# Altium schematic symbol library USLI_Footprints.SchLib: 148 symbols
Pins are listed as number, name and electrical type; pins without a type are passive.

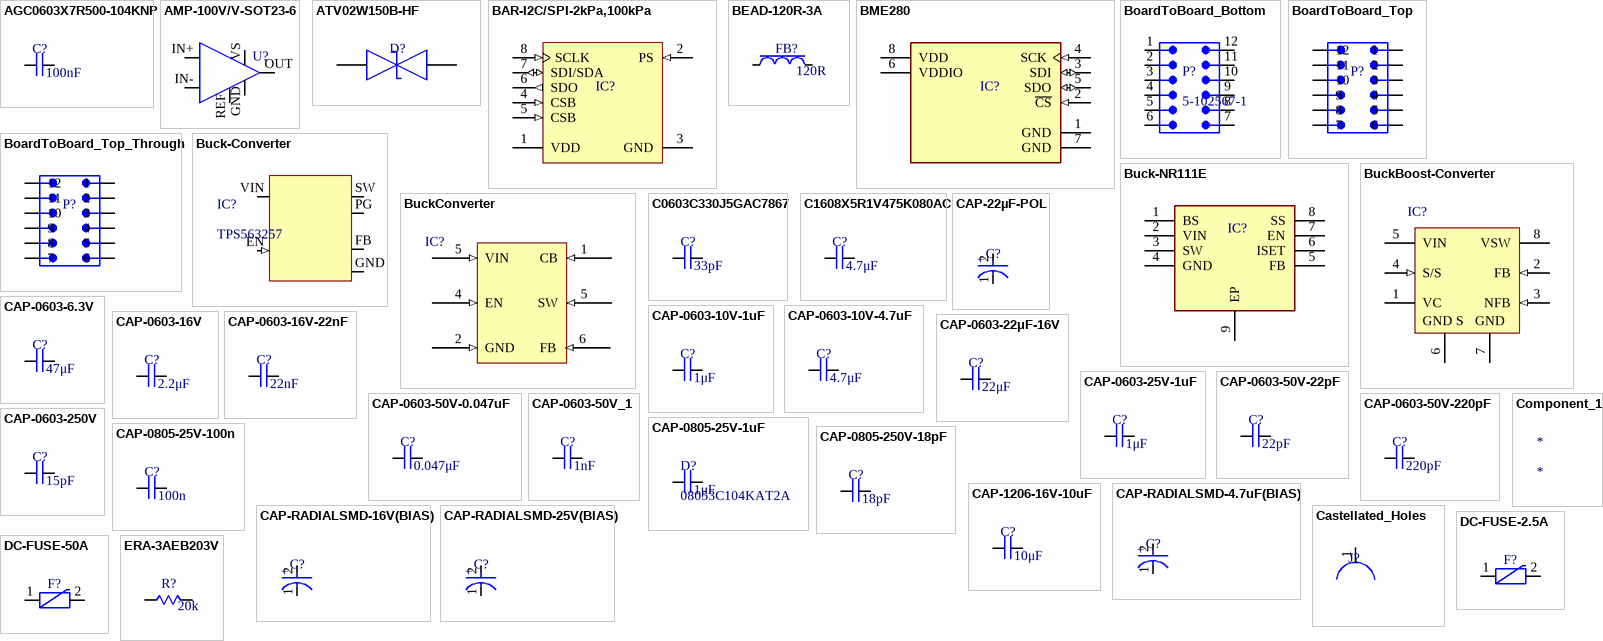
[diagram p0: symbols AGC0603X7R500-104KNP to ERA-3AEB203V]

## AGC0603X7R500-104KNP
designator C?  (value not drawn)
100nF ±10% 50V Ceramic Capacitor X7R 0603 (1608 Metric); Manufacturer: Venkel; Part number: AGC0603X7R500-104KNP
footprint 0603-CAP
pins: 1, 2
text: 100nF

## AMP-100V/V-SOT23-6
designator U?, comment INA181A3IDBVR  (value not drawn)
Current Sense Amplifier 1 Circuit Rail-to-Rail SOT-23-6; Manufacturer: Texas Instruments; Part number: INA181A3IDBVR
footprint SOT95P280X145-6N (SOT23, 6-Leads, Body 2.90x2.80mm, Pitch 0.95mm, IPC Medium Density); pin to pad GND>2 IN+>3 IN->6 OUT>1 REF>5 VS>4
pins: GND, IN+, IN-, OUT, REF, VS

## ATV02W150B-HF
designator D?  (value not drawn)
TVS DIODE 15VWM 24.4VC SOD123F; Manufacturer: Comchip Technology; Part number: ATV02W150B-HF
footprint FP-SOD-123-CA-MFG
pins: 1, 2

## BAR-I2C/SPI-2kPa,100kPa
designator IC?, comment MS560702BA03-50  (value not drawn)
Pressure Sensor 0.15PSI ~ 17.4PSI (1kPa ~ 120kPa) Absolute 24 b 8-SMD; Manufacturer: TE Connectivity Measurement Specialties; Part number: MS560702BA03-50
footprint TECO-MS560702BA03-50_V (SMD, 8-Leads, Body 3x5mm, Pitch 1.25mm)
pins: 1 VDD (power) "Positive supply voltage", 2 PS (in) "Protocol select. PS high (VDD) ---> I2C. PS low (GND) ---> SPI", 3 GND (power) "Ground", 4 CSB (in) "Chip select (active low), internal connection", 5 CSB (in) "Chip select (active low), internal connection", 6 SDO (out) "Serial data output", 7 SDI/SDA (io) "Serial data input / I2C data IO", 8 SCLK (in) "Serial data clock"

## BEAD-120R-3A
designator FB?, comment BLM18KG121TN1D  (value not drawn)
120 Ohms @ 100 MHz 1 Power Line Ferrite Bead 0603 (1608 Metric) 3A 30mOhm; Manufacturer: Murata Electronics; Part number: BLM18KG121TN1D
footprint FerriteBead-BLM18KG121TN1D
pins: 1 (power), 2 (power)
text: 120R

## BME280
designator IC?  (value not drawn)
Pressure Sensor 4.35PSI ~ 15.95PSI (30kPa ~ 110kPa) Absolute 16b 8-SMD
footprint BME280
pins: 1 GND (power), 2 ~{CS} (in), 3 SDI (io), 4 SCK (in), 5 SDO (io), 6 VDDIO (power), 7 GND (power), 8 VDD (power)

## BoardToBoard_Bottom
designator P?, comment 5-102567-1
Connector Header Through Hole 12 position 0.100" (2.54mm)
footprint 12-pin-2-row-male
pins: 1, 2, 3, 4, 5, 6, 7, 8, 9, 10, 11, 12

## BoardToBoard_Top
designator P?, comment NPPC062KFMS-RC  (value not drawn)
12 Position Receptacle Connector 0.100" (2.54mm) Through Hole Gold
footprint NPPC062KFMS-RC
pins: 1 12, 2 11, 3 10, 4 9, 5 8, 6 7, 7 6, 8 5, 9 4, 10 3, 11 2, 12 1

## BoardToBoard_Top_Through
designator P?, comment 215307-6  (value not drawn)
12 Position Receptacle Connector 0.100" (2.54mm) Through Hole Gold
footprint 12-PIN-2-ROW-FEMALE
pins: 1 12, 2 11, 3 10, 4 9, 5 8, 6 7, 7 6, 8 5, 9 4, 10 3, 11 2, 12 1

## Buck-Converter
designator IC?, comment TPS563257
TPS56325x 3-V to 17-V Input, 3-A, Synchronous Buck Converters in SOT-563 Package; Manufacturer: Texas Instruments; Part number: TPS563257
footprint SOT50P160X60-6N
pins: EN (in), FB, GND (power), PG, SW (power), VIN (power)

## Buck-NR111E
designator IC?, comment NR111E  (value not drawn)
Buck Switching Regulator IC Positive Adjustable 0.8V 1 Output 4A 8-SOIC (0.154", 3.90mm Width) Exposed Pad
footprint SOIC-8-Thermally-Enhanced (Standard SOIC-8 symbol with thermal pad)
pins: 1 BS, 2 VIN, 3 SW, 4 GND, 5 FB, 6 ISET, 7 EN, 8 SS, 9 EP

## BuckBoost-Converter
designator IC?, comment LT1372CS8#TRPBF  (value not drawn)
Buck, Boost, Cuk, Flyback, Forward Converter, SEPIC Switching Regulator IC Positive or Negative Adjustable 1.245V 1 Output 1.5A (Switch) 8-SOIC (0.154", 3.90mm Width); Manufacturer: Analog Devices Inc.; Part number: LT1372CS8#TRPBF
footprint LT-S8-8_L (SOIC, 8-Leads, Body 5x4mm, Pitch 1.27mm, IPC High Density)
pins: 1 VC "The compensation pin is used for frequency compensation, current limiting and soft start. It is the output of the error amplifier and the input of the current comparator. Loop frequency compensation can be performed with an (See Datasheet)", 2 FB (in) "The feedback pin is used for positive output voltage sensing and oscillator frequency shifting. It is the inverting input to the error amplifier. The noninverting input of this amplifier is internally tied to a 1.245V (See Datasheet)", 3 NFB (in), 4 S/S (in) "Shutdown and Synchronization Pin. The S/S pin is logic level compatible. Shutdown is active low and the shutdown threshold is typically 1.3V. For normal operation, pull the S/S pin high, tie it to VIN or leave it floating. (See Datasheet)", 5 VIN (power) "Bypass input supply pin with 10uF or more. The part goes into undervoltage lockout when VIN drops below 2.5V. Undervoltage lockout stops switching and pulls the VC pin low.", 6 GND S (power) "The ground sense pin is a ¡°clean¡± ground. The internal reference, error amplifier and negative feedback amplifier are referred to the ground sense pin. Connect it to ground. Keep the ground path connection to the out(See Datasheet)", 7 GND (power) "The ground pin is the emitter connection of the power switch and has large currents flowing through it. It should be connected directly to a good quality ground plane.", 8 VSW (power) "The switch pin is the collector of the power switch and has large currents flowing through it. Keep the traces to the switching components as short as possible to minimize radiation and voltage spikes."

## BuckConverter
designator IC?, comment LMR51610XFDBVR  (value not drawn)
Buck Switching Regulator IC Positive Adjustable 0.8V 1 Output 1A SOT-23-6; Manufacturer: Texas Instruments; Part number: LMR51610XFDBVR
footprint SOT23-6 (SOT23, 6-Leads, Body 2.90x2.80mm, Pitch 0.95mm, IPC Medium Density)
pins: 1 CB (in), 2 GND (in), 4 EN (in), 5 VIN (in), 5 SW (in), 6 FB (in)

## C0603C330J5GAC7867
designator C?  (value not drawn)
33 pF ±5% 50V Ceramic Capacitor C0G, NP0 0603 (1608 Metric); Parameter 2: KEMET; Manufacturer: C0603C330J5GAC7867
footprint 0603-CAP
pins: 1, 2
text: 33pF

## C1608X5R1V475K080AC
designator C?  (value not drawn)
4.7 µF ±10% 35V Ceramic Capacitor X5R 0603 (1608 Metric); Manufacturer: TDK Corporation; Part number: C1608X5R1V475K080AC
footprint 0603-CAP
pins: 1, 2
text: 4.7μF

## CAP-22µF-POL
designator C?, comment EEE-FK1H220P  (value not drawn)
22 µF 50 V Aluminum Electrolytic Capacitors Radial, Can - SMD 2000 Hrs @ 105°C; Manufacturer: Panasonic Electronic Components; Part number: EEE-FK1H220P
footprint FP-FKD-MFG - duplicate
pins: 1 C, 2 A
text: +

## CAP-0603-6.3V
designator C?, comment GRM188R60J476ME15D  (value not drawn)
47 µF ±20% 6.3V Ceramic Capacitor X5R 0603 (1608 Metric); Manufacturer: Murata Electronics; Part number: GRM188R60J476ME15D
footprint 0603-CAP
pins: 1, 2
text: 47μF

## CAP-0603-10V-1uF
designator C?, comment C0603C105Z8VAC7867  (value not drawn)
1 µF -20%, +80% 10V Ceramic Capacitor Y5V (F) 0603 (1608 Metric)
footprint 0603-CAP
pins: 1, 2
text: 1μF

## CAP-0603-10V-4.7uF
designator C?, comment CL21A475KAQNNNE  (value not drawn)
4.7 µF ±10% 25V Ceramic Capacitor X5R 0805 (2012 Metric)
footprint CAP-0805
pins: 1, 2
text: 4.7μF

## CAP-0603-16V
designator C?, comment CL10A225KO8NNNC  (value not drawn)
2.2 µF ±10% 16V Ceramic Capacitor X5R 0603 (1608 Metric); Manufacturer: Samsung Electro-Mechanics; Part number: CL10A225KO8NNNC
footprint 0603-CAP
pins: 1, 2
text: 2.2μF

## CAP-0603-16V-22nF
designator C?, comment GRM033R61C223ME84D  (value not drawn)
0.022 µF ±20% 16V Ceramic Capacitor X5R 0201 (0603 Metric); Manufacturer: Murata Electronics; Part number: GRM033R61C223ME84D
footprint 0603-CAP
pins: 1, 2
text: 22nF

## CAP-0603-22μF-16V
designator C?, comment CL10A226MO7JZNC  (value not drawn)
22 µF ±20% 16V Ceramic Capacitor X5R 0603 (1608 Metric); Manufacturer: Samsung Electro-Mechanics; Part number: CL10A226MO7JZNC
footprint 0603-CAP
pins: 1, 2
text: 22μF

## CAP-0603-25V-1uF
designator C?, comment 06033D105MAT2A  (value not drawn)
1 µF ±20% 25V Ceramic Capacitor X5R 0603 (1608 Metric); Manufacturer: KYOCERA AVX; Part number: 06033D105MAT2A
footprint 0603-CAP
pins: 1, 2
text: 1μF

## CAP-0603-50V-0.047uF
designator C?, comment GCM188R71H473KA55D  (value not drawn)
0.047 µF ±10% 50V Ceramic Capacitor X7R 0603 (1608 Metric); Manufacturer: Murata Electronics; Part number: GCM188R71H473KA55D
footprint 0603-CAP
pins: 1, 2
text: 0.047μF

## CAP-0603-50V-22pF
designator C?, comment C0603C220J5GAC7867  (value not drawn)
22 pF ±5% 50V Ceramic Capacitor C0G, NP0 0603 (1608 Metric); Manufacturer: KEMET; Part number: C0603C220J5GAC7867
footprint 0603-CAP
pins: 1, 2
text: 22pF

## CAP-0603-50V-220pF
designator C?, comment KGM15AR71H221MT  (value not drawn)
220 pF ±20% 50V Ceramic Capacitor X7R 0603 (1608 Metric); Manufacturer: KYOCERA AVX; Part number: KGM15AR71H221MT
footprint 0603-CAP
pins: 1, 2
text: 220pF

## CAP-0603-50V_1
designator C?, comment C0603C102K5RAC7867  (value not drawn)
1000 pF ±10% 50V Ceramic Capacitor X7R 0603 (1608 Metric); Manufacturer: KEMET; Part number: C0603C102K5RAC7867
footprint 0603-CAP
pins: 1, 2
text: 1nF

## CAP-0603-250V
designator C?, comment CHV0603N250150GCT  (value not drawn)
15 pF ±2% 250V Ceramic Capacitor C0G, NP0 0603 (1608 Metric); Manufacturer: Cal-Chip Electronics, Inc.; Part number: CHV0603N250150GCT
footprint 0603-CAP
pins: 1, 2
text: 15pF

## CAP-0805-25V-1uF
designator D?, comment 08053C104KAT2A
Ceramic Capacitor, Multilayer, Ceramic, 25V, 10% +Tol, 10% -Tol, X7R, 15% TC, 0.1uF, Surface Mount, 0805
pins: 1, 2
text: 1μF

## CAP-0805-25V-100n
designator C?, comment KGM21NR71E104KT  (value not drawn)
0.1 µF ±10% 25V Ceramic Capacitor X7R 0805 (2012 Metric)
footprint CAP-0805
pins: 1, 2
text: 100n

## CAP-0805-250V-18pF
designator C?, comment 600F180FT250XT  (value not drawn)
18 pF ±1% 250V Ceramic Capacitor C0G, NP0 0805 (2012 Metric)
footprint CAP-0805
pins: 1, 2
text: 18pF

## CAP-1206-16V-10uF
designator C?, comment GRM31CR71C106KAC7L  (value not drawn)
10 µF ±10% 16V Ceramic Capacitor X7R 1206 (3216 Metric)
footprint 1206-RES
pins: 1, 2
text: 10μF

## CAP-RADIALSMD-4.7uF(BIAS)
designator C?, comment 865080640004  (value not drawn)
4.7 µF 50 V Aluminum Electrolytic Capacitors Radial, Can - SMD 2000 Hrs @ 105°C
footprint 865080640004
pins: 1 C, 2 A
text: +

## CAP-RADIALSMD-16V(BIAS)
designator C?, comment 16SVP3R3M  (value not drawn)
CAP ALUM POLY 3.3UF 20% 16V SMD; Manufacturer: Panasonic Electronic Components; Part number: 16SVP3R3M
footprint FP-OS-CON-SMT-A5-MFG
pins: 1 C, 2 A
text: +

## CAP-RADIALSMD-25V(BIAS)
designator C?, comment EEE-FK1E470P  (value not drawn)
47 µF 25 V Aluminum Electrolytic Capacitors Radial, Can - SMD 2000 Hrs @ 105°C; Manufacturer: Panasonic Electronic Components; Part number: EEE-FK1E470P
footprint FP-FKD-MFG
pins: 1 C, 2 A
text: +

## Castellated_Holes
designator J?, comment CastellatedHoles  (value not drawn)
Use for high current and external connections
footprint Castellated_Holes
pins: 1

## Component_1
designator *

## DC-FUSE-2.5A
designator F?, comment MF-USHT050KX-2  (value not drawn)
Polymeric PTC Resettable Fuse 30V 500 mA Ih Surface Mount 1210 (3225 Metric), Concave
footprint 1210-IND
pins: 1 2, 2

## DC-FUSE-50A
designator F?, comment 0685P9500-01  (value not drawn)
50 A AC 32 V DC Fuse Board Mount (Cartridge Style Excluded) Surface Mount 1206 (3216 Metric)
footprint 0685P9500-01
pins: 1 2, 2

## ERA-3AEB203V
designator R?  (value not drawn)
20 kOhms ±0.1% 0.1W, 1/10W Chip Resistor 0603 (1608 Metric) Automotive AEC-Q200 Thin Film; Manufacturer: Panasonic Electronic Components; Part number: ERA-3AEB203V
footprint 0603-RES
pins: 1, 2
text: 20k

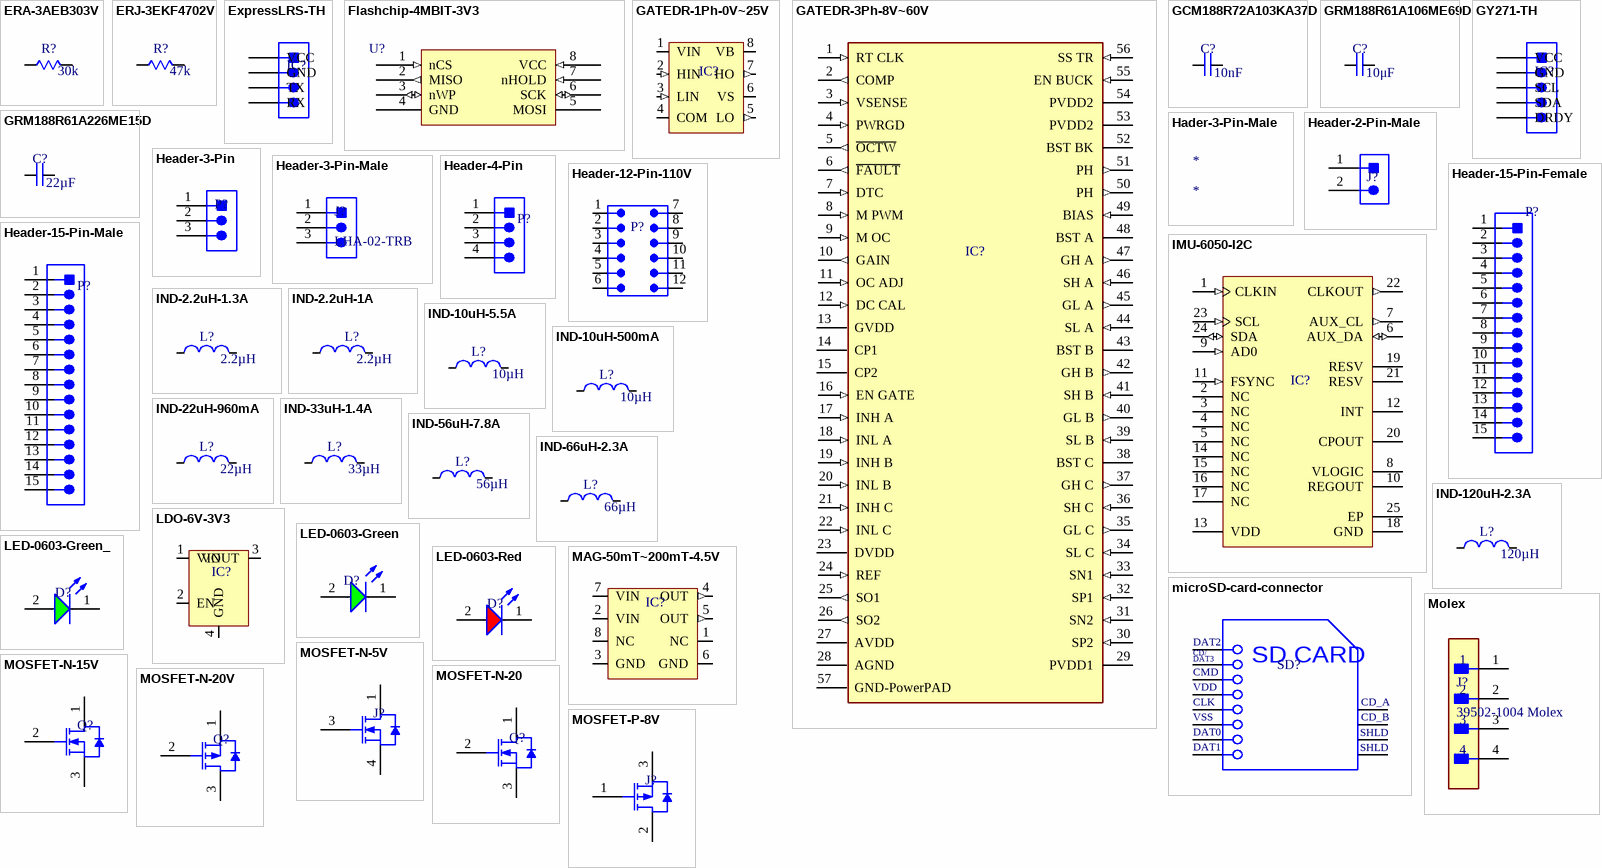
[diagram p1: symbols ERA-3AEB303V to MOSFET-P-8V]

## ERA-3AEB303V
designator R?  (value not drawn)
30 kOhms ±0.1% 0.1W, 1/10W Chip Resistor 0603 (1608 Metric) Automotive AEC-Q200 Thin Film; Manufacturer: Panasonic Electronic Components; Part number: ERA-3AEB303V
footprint 0603-RES
pins: 1, 2
text: 30k

## ERJ-3EKF4702V
designator R?  (value not drawn)
47 kOhms ±1% 0.1W, 1/10W Chip Resistor 0603 (1608 Metric) Automotive AEC-Q200 Thick Film; Parameter 1: Panasonic Electronic Components; Parameter 2: ERJ-3EKF4702V
pins: 1, 2
text: 47k

## ExpressLRS-TH
designator IC?  (value not drawn)
ExpressLRS Breakout Board
footprint ExpressLRS-TH
pins: 1 VCC, 2 GND, 3 TX, 4 RX

## Flashchip-4MBIT-3V3
designator U?, comment AT25SF041B-SSHB-T  (value not drawn)
FLASH - NOR Memory IC 4Mbit SPI - Quad I/O 108 MHz 8-SOIC; Manufacturer: Renesas Electronics Corporation; Part number: AT25SF041B-SSHB-T
footprint SOIC Flash (SOIC, 8-Leads, Body 4.93x3.90mm, Pitch 1.27mm, IPC Medium Density)
pins: 1 nCS (in), 2 MISO (out), 3 nWP (io), 4 GND (power), 5 MOSI (power), 6 SCK (io), 7 nHOLD (in), 8 VCC (in)

## GATEDR-1Ph-0V~25V
designator IC?, comment IR2103STRPBF  (value not drawn)
Half-Bridge Gate Driver IC Inverting, Non-Inverting 8-SOIC; Manufacturer: Infineon Technologies; Part number: IR2103STRPBF
footprint SOIC127P600X120-8N (SOIC, 8-Leads, Body 5.00x3.90mm, Pitch 1.27mm, IPC Medium Density)
pins: 1 VIN (power), 2 HIN (in), 3 LIN (in), 4 COM (power), 5 LO (out), 6 VS, 7 HO (out), 8 VB

## GATEDR-3Ph-8V~60V
designator IC?, comment DRV8302DCAR  (value not drawn)
Motor Driver Power MOSFET Parallel 56-HTSSOP; Manufacturer: Texas Instruments; Part number: DRV8302DCAR
footprint FP-DCA0056A-IPC_A
pins: 1 RT CLK (in), 2 COMP (out), 3 VSENSE (in), 4 PWRGD (in), 5 ~{OCTW} (out), 6 ~{FAULT} (out), 7 DTC (in), 8 M PWM (in), 9 M OC (in), 10 GAIN (out), 11 OC ADJ (in), 12 DC CAL (in), 13 GVDD (power), 14 CP1 (power), 15 CP2 (power), 16 EN GATE (in), 17 INH A (in), 18 INL A (in), 19 INH B (in), 20 INL B (in), 21 INH C (in), 22 INL C (in), 23 DVDD (power), 24 REF (in), 25 SO1 (out), 26 SO2 (out), 27 AVDD (power), 28 AGND (power), 29 PVDD1 (power), 30 SP2 (in), 31 SN2 (in), 32 SP1 (in), 33 SN1 (in), 34 SL C (in), 35 GL C (out), 36 SH C (in), 37 GH C (out), 38 BST C (power), 39 SL B (in), 40 GL B (out), 41 SH B (in), 42 GH B (out), 43 BST B (power), 44 SL A (in), 45 GL A (out), 46 SH A (in), 47 GH A (out), 48 BST A (power), 49 BIAS (in), 50 PH (out), 51 PH (out), 52 BST BK (power), 53 PVDD2 (power), 54 PVDD2 (power), 55 EN BUCK (in), 56 SS TR (in), 57 GND-PowerPAD (power)

## GCM188R72A103KA37D
designator C?  (value not drawn)
10nF ±10% 100V Ceramic Capacitor X7R 0603 (1608 Metric); Manufacturer: Murata Electronics; Part number: GCM188R72A103KA37D
footprint 0603-CAP
pins: 1, 2
text: 10nF

## GRM188R61A106ME69D
designator C?  (value not drawn)
10 µF ±20% 10V Ceramic Capacitor X5R 0603 (1608 Metric); Manufacturer: GRM188R61A106ME69D; Part number: 10 µF ±20% 10V Ceramic Capacitor X5R 0603 (1608 Metric)
footprint 0603-CAP
pins: 1, 2
text: 10μF

## GRM188R61A226ME15D
designator C?  (value not drawn)
22 µF ±20% 10V Ceramic Capacitor X5R 0603 (1608 Metric); Manufacturer: MuRata Electronics; Part number: GRM188R61A226ME15D
footprint 0608-CAP
pins: 1, 2
text: 22µF

## GY271-TH
designator IC?  (value not drawn)
GY271 Breakout Board
footprint GY271-TH (HDR100IMP08F-G-V-ST)
pins: 1 VCC, 2 GND, 3 SCL, 4 SDA, 5 DRDY

## Hader-3-Pin-Male
designator *

## Header-2-Pin-Male
designator J?, comment 61300211121  (value not drawn)
Connector Header Through Hole 2 position 0.100" (2.54mm); Manufacturer: Würth Elektronik; Part number: 61300211121
footprint HEADER-2-Pin
pins: 1, 2

## Header-3-Pin
designator P?, comment 61300311121  (value not drawn)
Connector Header Through Hole 3 position 0.100" (2.54mm); Manufacturer: Würth Elektronik; Part number: 61300311121
footprint Header-3pin
pins: 1, 2, 3

## Header-3-Pin-Male
designator J?, comment LHA-02-TRB
Connector Header Through Hole, Right Angle 2 position 0.100" (2.54mm)
footprint PWM_ESC
pins: 1, 2, 3

## Header-4-Pin
designator P?, comment 22-27-2041  (value not drawn)
Male Header, Pitch 2.54 mm, 1 x 4 Position, Height 11.7 mm, Tail Length 3.56 mm, RoHS, Bulk; Manufacturer: MOLEX; Part number: 22-27-2041
footprint MOLX-22-27-2041_V (CONN, 4-Leads, Body 10.16x5.8mm, Pitch 2.54mm)
pins: 1, 2, 3, 4

## Header-12-Pin-110V
designator P?, comment 10129383-912001ALF  (value not drawn)
Connector Header Surface Mount 12 position 0.100" (2.54mm); Manufacturer: Amphenol ICC (FCI); Part number: 10129383-912001ALF
footprint PCBComponent_1 - duplicate
pins: 1, 2, 3, 4, 5, 6, 7, 8, 9, 10, 11, 12

## Header-15-Pin-Female
designator P?, comment PPTC151LFBN-RC  (value not drawn)
15 Position Header Connector 0.100" (2.54mm) Through Hole Tin; Manufacturer: Sullins Connector Solutions; Part number: PPTC151LFBN-RC
footprint Female 15pin-Header - duplicate (Footprint not found)
pins: 1, 2, 3, 4, 5, 6, 7, 8, 9, 10, 11, 12, 13, 14, 15

## Header-15-Pin-Male
designator P?, comment 0022232151  (value not drawn)
Connector Header Through Hole 15 position 0.100" (2.54mm); Manufacturer: Molex; Part number: 0022232151
footprint Male 15pin-Header
pins: 1, 2, 3, 4, 5, 6, 7, 8, 9, 10, 11, 12, 13, 14, 15

## IMU-6050-I2C
designator IC?, comment MPU-6050  (value not drawn)
Accelerometer, Gyroscope, 6 Axis Sensor I2C Output; Manufacturer: TDK InvenSense; Part number: MPU-6050
footprint IS-QFN-24_V (QFN, 24-Leads, Body 4x4mm, Pitch 0.5mm, Thermal Pad 2.7x2.6mm)
pins: 1 CLKIN (in) "Optional external reference clock input. Connect to GND if unused.", 2 NC "Not internally connected. May be used for PCB trace routing", 3 NC "Not internally connected. May be used for PCB trace routing", 4 NC "Not internally connected. May be used for PCB trace routing", 5 NC "Not internally connected. May be used for PCB trace routing", 6 AUX_DA (io) "I2C master serial data, for connecting to external sensors", 7 AUX_CL (out) "I2C Master serial clock, for connecting to external sensors", 8 VLOGIC (power) "Digital I/O supply voltage", 9 AD0 (in) "I2C Slave Address LSB (AD0)", 10 REGOUT "Regulator filter capacitor connection", 11 FSYNC (in) "Frame synchronization digital input. Connect to GND if unused.", 12 INT (oc) "Interrupt digital output (totem pole or open-drain)", 13 VDD (power) "Power supply voltage and Digital I/O supply voltage", 14 NC "Not internally connected. May be used for PCB trace routing", 15 NC "Not internally connected. May be used for PCB trace routing", 16 NC "Not internally connected. May be used for PCB trace routing", 17 NC "Not internally connected. May be used for PCB trace routing", 18 GND (power) "Power supply ground", 19 RESV "Reserved. Do not connect", 20 CPOUT "Charge pump capacitor connection", 21 RESV "Reserved. Do not connect", 22 CLKOUT (out) "System clock output", 23 SCL (in) "System clock output  I2C serial clock (SCL)", 24 SDA (io) "I2C serial data (SDA)", 25 EP (power) "Exposed Pad"

## IND-2.2uH-1.3A
designator L?, comment LQM2HPN2R2MG0L  (value not drawn)
2.2 µH Shielded Multilayer Inductor 1.3 A 100mOhm Max 1008 (2520 Metric); Manufacturer: Murata Electronics; Part number: LQM2HPN2R2MG0L
footprint 1008-IND
pins: 1 (power), 2 (power)
text: 2.2µH

## IND-2.2uH-1A
designator L?, comment LQW32FT2R2M0HL  (value not drawn)
2.2 µH Shielded Drum Core, Wirewound Inductor 1 A 190mOhm Max 1210 (3225 Metric); Manufacturer: Murata Electronics; Part number: LQW32FT2R2M0HL
footprint 1210-IND
pins: 1 (power), 2 (power)
text: 2.2µH

## IND-10uH-5.5A
designator L?, comment SRR1260-100M  (value not drawn)
10 µH Shielded Drum Core, Wirewound Inductor 5.5 A 20mOhm Max Nonstandard
footprint SRR1260-100M
pins: 1 (power), 2 (power)
text: 10µH

## IND-10uH-500mA
designator L?, comment MLZ2012N100LT000  (value not drawn)
10 µH Shielded Multilayer Inductor 500 mA 300mOhm 0805 (2012 Metric); Manufacturer: TDK Corporation; Part number: MLZ2012N100LT000
footprint 0805-IND
pins: 1 (power), 2 (power)
text: 10µH

## IND-22uH-960mA
designator L?, comment BCL322515RT-220M-D  (value not drawn)
22 µH Shielded Drum Core, Wirewound Inductor 960 mA 710mOhm Max 1210 (3225 Metric); Manufacturer: TDK Corporation; Part number: BCL322515RT-220M-D
footprint 1210-IND
pins: 1 (power), 2 (power)
text: 22µH

## IND-33uH-1.4A
designator L?, comment SRN6045-330M  (value not drawn)
33 µH Shielded Drum Core, Wirewound Inductor 1.4 A 188mOhm Max Nonstandard; Manufacturer: Bourns Inc.; Part number: SRN6045-330M
footprint IND-SRN6045-330M
pins: 1 (power), 2 (power)
text: 33µH

## IND-56uH-7.8A
designator L?, comment PA4344.563NLT  (value not drawn)
56 µH Shielded Molded Inductor 7.8 A 62mOhm Max Nonstandard
footprint PA4344.563NLT
pins: 1 (power), 2 (power)
text: 56µH

## IND-66uH-2.3A
designator L?, comment ETQ-P5M680YFM  (value not drawn)
66 µH Shielded Drum Core, Wirewound Inductor 2.3 A 276.1mOhm Max 2-SMD, J-Lead
footprint ETQ-P5M680YFM
pins: 1 (power), 2 (power)
text: 66µH

## IND-120uH-2.3A
designator L?, comment SRR1210-121M  (value not drawn)
120 µH Shielded Drum Core, Wirewound Inductor 2.3 A 170mOhm Max Nonstandard
footprint SRR1210-121M
pins: 1 (power), 2 (power)
text: 120µH

## LDO-6V-3V3
designator IC?, comment AP2114HA-3.3TRG1  (value not drawn)
Linear Voltage Regulator IC Positive Fixed 1 Output 1A SOT-223-3; Manufacturer: Diodes Incorporated; Part number: AP2114HA-3.3TRG1
footprint TO-261AA (SOT223, 4-Leads, Body 6.50x7.00mm (avg), Pitch 2.25mm, IPC Medium Density)
pins: 1 VIN, 2 EN, 3 VOUT, 4 GND

## LED-0603-Green
designator D?, comment 150060GS75000  (value not drawn)
Green 520nm LED Indication - Discrete 3.2V 0603 (1608 Metric); Manufacturer: Würth Elektronik; Part number: 150060GS75000
footprint WL-SMCW_0603_150060xx75000 (SMD Mono-color Chip LED, body 1.6x0.8mm)
pins: 1 K, 2 A

## LED-0603-Green_
designator D?, comment LTST-C190KGKT  (value not drawn)
Green 571nm LED Indication - Discrete 2V 0603 (1608 Metric)
footprint FP-LTST-C190KGKT-MFG
pins: 1 K, 2 A

## LED-0603-Red
designator D?, comment CTL0603FRD1T  (value not drawn)
Red 630nm LED Indication - Discrete 1.5V 0603 (1608 Metric); Manufacturer: Venkel; Part number: CTL0603FRD1T
footprint WL-SMCW_0603_150060xx75000 (SMD Mono-color Chip LED, body 1.6x0.8mm)
pins: 1 K, 2 A

## MAG-50mT~200mT-4.5V
designator IC?, comment TLE4997A8DXUMA1  (value not drawn)
Hall Effect Sensor Single Axis; Manufacturer: Infineon Technologies; Part number: TLE4997A8DXUMA1
footprint SOIC127P600X120-8N (SOIC, 8-Leads, Body 5.00x3.90mm, Pitch 1.27mm, IPC Medium Density)
pins: 1 NC, 2 VIN (power), 3 GND (power), 4 OUT (out), 5 OUT (out), 6 GND (power), 7 VIN (power), 8 NC

## microSD-card-connector
designator SD?, comment 1040310811  (value not drawn)
10 (8 + 2) Position Card Connector Secure Digital - microSD™ Surface Mount, Right Angle Gold; Manufacturer: Molex; Parameter 2: 1040310811
footprint MOLX-104031-0811_V (Micro SD, 8-Leads, Body 11.95x11.4mm, Pitch 1.1mm)
pins: 1 CD/DAT3, 2 CMD, 3 VSS1, 4 VDD, 5 CLK, 6 VSS2, 7 DAT0, 8 DAT1, 9 CD_A, 10 CD_B, 11 SHLD1, 12 SHLD2
text: DAT2; CD/; DAT3; SD CARD; VSS; SHLD

## Molex
designator J?, comment 39502-1004 Molex
Barrier Strip Terminal Block; Manufacturer: Molex; Part number: 39502-1004 Molex
footprint FP-39502-1004-MFG
pins: 1, 2, 3, 4

## MOSFET-N-5V
designator J?, comment SIA436DJ-T1-GE3  (value not drawn)
N-Channel 8 V 12A (Tc) 3.5W (Ta), 19W (Tc) Surface Mount PowerPAK® SC-70-6; Manufacturer: Vishay Siliconix; Part number: SIA436DJ-T1-GE3
footprint N-MOSFET-SIA436DJ-T1-GE3; pin to pad 1>5
pins: 1 D, 3 G, 4 S

## MOSFET-N-15V
designator Q?, comment BUK98150-55A/CUF  (value not drawn)
N-Channel 55 V 5.5A (Tc) 8W (Tc) Surface Mount SOT-223; Manufacturer: Nexperia USA Inc.; Part number: BUK98150-55A/CUF
footprint SOT230P700X180-4N (SOT223, 4-Leads, Body 6.50x7.00mm (avg), Pitch 2.30mm, IPC Medium Density); pin to pad 1>2+4 2>1
pins: 1 D, 2 G, 3 S

## MOSFET-N-20
designator Q?, comment SiR182DP  (value not drawn)
N-Channel 60 V 60A (Tc) 69.4W (Tc) Surface Mount PowerPAK® SO-8; Manufacturer: Vishay Siliconix; Part number: SiR182DP
footprint FP-S17-0173-SINGLE-MFG - duplicate; pin to pad 1>5-6-7-8 2>4 3>1+2+3
pins: 1 D, 2 G, 3 S

## MOSFET-N-20V
designator Q?, comment Si2325DS  (value not drawn)
MOSFET -150V Vds 20V Vgs SOT-23; Manufacturer: Vishay Electronics; Part number: Si2325DS
footprint SOT95P237X112-3N (SOT23, 3-Leads, Body 2.92x2.37mm, Pitch 0.95mm, IPC Medium Density); pin to pad 1>2 2>1
pins: 1 D, 2 G, 3 S

## MOSFET-P-8V
designator J?, comment CSD23381F4  (value not drawn)
P-Channel 12 V 2.3A (Ta) 500mW (Ta) Surface Mount 3-PICOSTAR; Manufacturer: Texas Instruments; Part number: CSD23381F4
footprint P-Mos-CSD23381F4
pins: 1 G, 2 D, 3 S

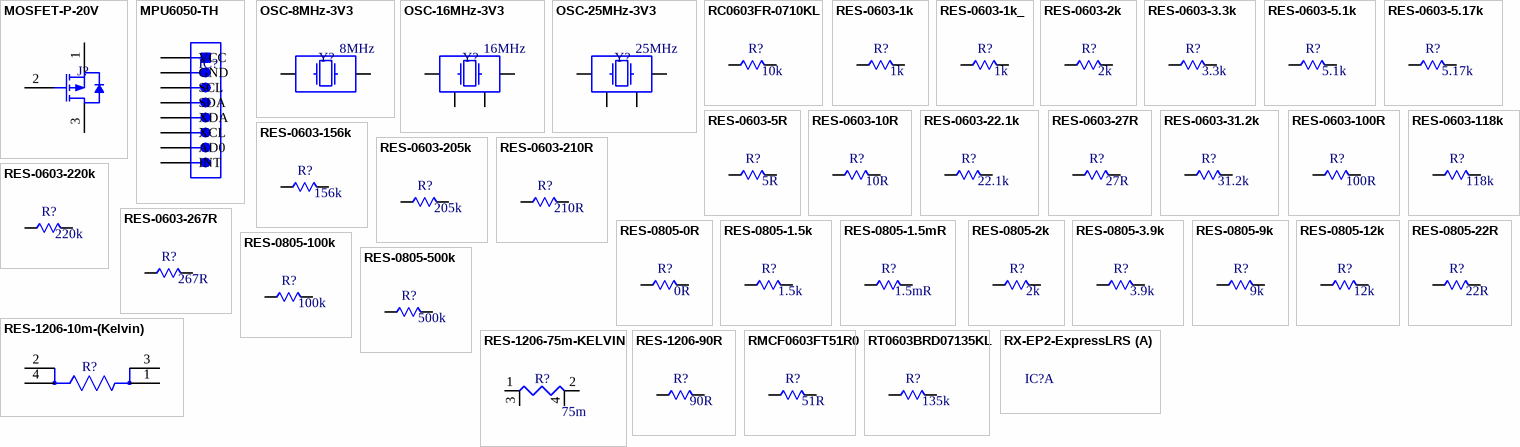
[diagram p2: symbols MOSFET-P-20V to RX-EP2-ExpressLRS]

## MOSFET-P-20V
designator J?, comment DMP2008UFG-7  (value not drawn)
P-Channel 20 V 14A (Ta), 54A (Tc) 2.4W (Ta), 41W (Tc) Surface Mount POWERDI3333-8; Manufacturer: Diodes Incorporated; Part number: DMP2008UFG-7
footprint DMP2008UFG7 (POWERDI3333-8); pin to pad 1>1+2+3 2>4 3>5+6+7+8
pins: 1 S, 2 G, 3 D

## MPU6050-TH
designator IC?
MPU6050 Breakout Board
footprint MPU6050-TH (HDR100IMP08F-G-V-ST)
pins: 1 VCC, 2 GND, 3 SCL, 4 SDA, 5 XDA, 5 XCL, 7 AD0, 8 INT

## OSC-8MHz-3V3
designator Y?, comment ABLS-8.000MHZ-B2-T  (value not drawn)
8 MHz ±20ppm Crystal 18pF 80 Ohms HC-49/US
footprint ABLS-8.000MHZ-B2-T
pins: 1, 2
text: 8MHz

## OSC-16MHz-3V3
designator Y?, comment CX2016SA20000B0KSRCC  (value not drawn)
Crystals 2.0mm x 1.6mm Crystal 20MHz 6pF +/-40ppm; Manufacturer: KYOCERA AVX; Part number: CX2016SA20000B0KSRCC
footprint OSC-16MHz-CX2016SA20000B0KSRCC
pins: 1, 2, 3, 4
text: 16MHz

## OSC-25MHz-3V3
designator Y?, comment ECS-8FA3X-250-TR  (value not drawn)
25 MHz XO (Standard) CMOS Oscillator 3.3V Enable/Disable 4-SOJ, 5.08mm pitch; Manufacturer: ECS Inc.; Part number: ECS-8FA3X-250-TR
footprint Crystall-ECS-8FA3X-250-TR (SOJ, 4-Leads, Body 14.00x9.80mm, Pitch 5.08mm, IPC Low Density)
pins: 1, 2, 3, 4
text: 25MHz

## RC0603FR-0710KL
designator R?  (value not drawn)
10 kOhms ±1% 0.1W, 1/10W Chip Resistor 0603 (1608 Metric) Moisture Resistant Thick Film; Manufacturer: Yageo; Part number: RC0603FR-0710KL
footprint 0603-RES
pins: 1, 2
text: 10k

## RES-0603-1k
designator R?, comment SR0603KR-7W1KL  (value not drawn)
1 kOhms ±10% 0.2W, 1/5W Chip Resistor 0603 (1608 Metric) Automotive AEC-Q200, Pulse Withstanding Thick Film; Manufacturer: Yageo; Part number: SR0603KR-7W1KL
footprint 0603-RES
pins: 1, 2
text: 1k

## RES-0603-1k_
designator R?, comment ESR03EZPF1001  (value not drawn)
1 kOhms ±1% 0.25W, 1/4W Chip Resistor 0603 (1608 Metric) Automotive AEC-Q200, Pulse Withstanding Thick Film
footprint 0603-RES
pins: 1, 2
text: 1k

## RES-0603-2k
designator R?, comment ERJ-3EKF2001V  (value not drawn)
2 kOhms ±1% 0.1W, 1/10W Chip Resistor 0603 (1608 Metric) Automotive AEC-Q200 Thick Film; Manufacturer: Panasonic Electronic Components; Part number: ERJ-3EKF2001V
footprint 0603-RES
pins: 1, 2
text: 2k

## RES-0603-3.3k
designator R?, comment ERA-3AEB332V  (value not drawn)
3.3 kOhms ±0.1% 0.1W, 1/10W Chip Resistor 0603 (1608 Metric) Automotive AEC-Q200 Thin Film; Manufacturer: Panasonic Electronic Components; Part number: ERA-3AEB332V
footprint 0603-RES
pins: 1, 2
text: 3.3k

## RES-0603-5.1k
designator R?, comment RC0603FR-075K1L  (value not drawn)
5.1 kOhms ±1% 0.1W, 1/10W Chip Resistor 0603 (1608 Metric) Moisture Resistant Thick Film; Manufacturer: YAGEO; Part number: RC0603FR-075K1L
footprint 0603-RES
pins: 1, 2
text: 5.1k

## RES-0603-5.17k
designator R?, comment RN73H1JTTD5171B25  (value not drawn)
5.17 kOhms ±0.1% 0.1W, 1/10W Chip Resistor 0603 (1608 Metric) Automotive AEC-Q200, Moisture Resistant Metal Film; Manufacturer: KOA Speer Electronics, Inc.; Part number: RN73H1JTTD5171B25
footprint 0603-RES
pins: 1, 2
text: 5.17k

## RES-0603-5R
designator R?, comment CSRT0603FT5R00  (value not drawn)
5 Ohms ±1% 0.4W Chip Resistor 0603 (1608 Metric) Automotive AEC-Q200, Current Sense Thin Film; Manufacturer: Stackpole Electronics Inc; Part number: CSRT0603FT5R00
footprint 0603-RES
pins: 1, 2
text: 5R

## RES-0603-10R
designator R?, comment RT0603BRD0710RL  (value not drawn)
10 Ohms ±0.1% 0.1W, 1/10W Chip Resistor 0603 (1608 Metric) Thin Film; Manufacturer: Yageo; Part number: RT0603BRD0710RL
footprint 0603-RES
pins: 1, 2
text: 10R

## RES-0603-22.1k
designator R?, comment RMCF0603FT22K1  (value not drawn)
22.1 kOhms ±1% 0.1W, 1/10W Chip Resistor 0603 (1608 Metric) Automotive AEC-Q200 Thick Film; Manufacturer: Stackpole Electronics Inc; Part number: RMCF0603FT22K1
footprint 0603-RES
pins: 1, 2
text: 22.1k

## RES-0603-27R
designator R?, comment RT0603BRD0727RL  (value not drawn)
27 Ohms ±0.1% 0.1W, 1/10W Chip Resistor 0603 (1608 Metric) Thin Film; Manufacturer: YAGEO; Part number: RT0603BRD0727RL
footprint 0603-RES
pins: 1, 2
text: 27R

## RES-0603-31.2k
designator R?, comment RN73H1JTTD3122B50  (value not drawn)
31.2 kOhms ±0.1% 0.1W, 1/10W Chip Resistor 0603 (1608 Metric) Automotive AEC-Q200, Moisture Resistant Metal Film; Manufacturer: KOA Speer Electronics, Inc.; Part number: RN73H1JTTD3122B50
footprint 0603-RES
pins: 1, 2
text: 31.2k

## RES-0603-100R
designator R?, comment SG731JTTD101K  (value not drawn)
100 Ohms ±10% 0.1W, 1/10W Chip Resistor 0603 (1608 Metric) Automotive AEC-Q200, Moisture Resistant, Pulse Withstanding Thick Film; Manufacturer: KOA Speer Electronics, Inc.; Part number: SG731JTTD101K
footprint 0603-RES
pins: 1, 2
text: 100R

## RES-0603-118k
designator R?, comment RC0603FR-07118KL  (value not drawn)
118 kOhms ±1% 0.1W, 1/10W Chip Resistor 0603 (1608 Metric) Moisture Resistant Thick Film; Manufacturer: YAGEO; Part number: RC0603FR-07118KL
footprint 0603-RES
pins: 1, 2
text: 118k

## RES-0603-156k
designator R?, comment RN73R1JTTD1563F100  (value not drawn)
156 kOhms ±1% 0.1W, 1/10W Chip Resistor 0603 (1608 Metric) Automotive AEC-Q200, Moisture Resistant Thin Film; Manufacturer: KOA Speer Electronics, Inc.; Part number: RN73R1JTTD1563F100
footprint 0603-RES
pins: 1, 2
text: 156k

## RES-0603-205k
designator R?, comment RC0603FR-07205KL  (value not drawn)
205 kOhms ±1% 0.1W, 1/10W Chip Resistor 0603 (1608 Metric) Moisture Resistant Thick Film; Manufacturer: YAGEO; Part number: RC0603FR-07205KL
footprint 0603-RES
pins: 1, 2
text: 205k

## RES-0603-210R
designator R?, comment RC0603FR-07210RL  (value not drawn)
210 Ohms ±1% 0.1W, 1/10W Chip Resistor 0603 (1608 Metric) Moisture Resistant Thick Film; Manufacturer: YAGEO; Part number: RC0603FR-07210RL
footprint 0603-RES
pins: 1, 2
text: 210R

## RES-0603-220k
designator R?, comment RMCF0603FT220K  (value not drawn)
220 kOhms ±1% 0.1W, 1/10W Chip Resistor 0603 (1608 Metric) Automotive AEC-Q200 Thick Film; Manufacturer: Stackpole Electronics Inc; Part number: RMCF0603FT220K
footprint 0603-RES
pins: 1, 2
text: 220k

## RES-0603-267R
designator R?, comment ERJ-3EKF2670V  (value not drawn)
267 Ohms ±1% 0.1W, 1/10W Chip Resistor 0603 (1608 Metric) Automotive AEC-Q200 Thick Film; Manufacturer: Panasonic Electronic Components; Part number: ERJ-3EKF2670V
footprint 0603-RES
pins: 1, 2
text: 267R

## RES-0805-0R
designator R?, comment ERJ-6GEY0R00V  (value not drawn)
0 Ohms Jumper Chip Resistor 0805 (2012 Metric) Automotive AEC-Q200 Thick Film
footprint 0805-RES
pins: 1, 2
text: 0R

## RES-0805-1.5k
designator R?, comment RC0805FR-071K5L  (value not drawn)
1.5 kOhms ±1% 0.125W, 1/8W Chip Resistor 0805 (2012 Metric) Moisture Resistant Thick Film
footprint 0805-RES
pins: 1, 2
text: 1.5k

## RES-0805-1.5mR
designator R?, comment D1MPC0805R1M50FF-T5  (value not drawn)
1.5 mOhms ±1% 0.5W, 1/2W Chip Resistor 0805 (2012 Metric) Anti-Sulfur, Current Sense, Moisture Resistant Metal Foil; Manufacturer: Thin Film Technology Corp.; Part number: D1MPC0805R1M50FF-T5
footprint 0805-RES
pins: 1, 2
text: 1.5mR

## RES-0805-2k
designator R?, comment ERJ-6ENF2001V  (value not drawn)
2 kOhms ±1% 0.125W, 1/8W Chip Resistor 0805 (2012 Metric) Automotive AEC-Q200 Thick Film
footprint 0805-RES
pins: 1, 2
text: 2k

## RES-0805-3.9k
designator R?, comment CRG0805F3K9  (value not drawn)
3.9 kOhms ±1% 0.125W, 1/8W Chip Resistor 0805 (2012 Metric) Thick Film
footprint 0805-RES
pins: 1, 2
text: 3.9k

## RES-0805-9k
designator R?, comment RT0805BRE079KL  (value not drawn)
9 kOhms ±0.1% 0.125W, 1/8W Chip Resistor 0805 (2012 Metric) Thin Film
footprint 0805-RES
pins: 1, 2
text: 9k

## RES-0805-12k
designator R?, comment RMCF0805JT12K0  (value not drawn)
12 kOhms ±5% 0.125W, 1/8W Chip Resistor 0805 (2012 Metric) Automotive AEC-Q200 Thick Film
footprint 0805-RES
pins: 1, 2
text: 12k

## RES-0805-22R
designator R?, comment RC0805FR-0722RL  (value not drawn)
22 Ohms ±1% 0.125W, 1/8W Chip Resistor 0805 (2012 Metric) Moisture Resistant Thick Film
footprint 0805-RES
pins: 1, 2
text: 22R

## RES-0805-100k
designator R?, comment SG73P2ATTD1003F  (value not drawn)
100 kOhms ±1% 0.5W, 1/2W Chip Resistor 0805 (2012 Metric) Automotive AEC-Q200, Pulse Withstanding Thick Film; Manufacturer: KOA Speer Electronics, Inc.; Part number: SG73P2ATTD1003F
footprint 0805-RES
pins: 1, 2
text: 100k

## RES-0805-500k
designator R?, comment RNCF0805BTE500K  (value not drawn)
500 kOhms ±0.1% 0.125W, 1/8W Chip Resistor 0805 (2012 Metric) Automotive AEC-Q200 Thin Film
footprint 0805-RES
pins: 1, 2
text: 500k

## RES-1206-10m-(Kelvin)
designator R?, comment WSK1206R0100FEA18  (value not drawn)
10 mOhms ±1% 0.5W, 1/2W Chip Resistor 1206 (3216 Metric) Current Sense, Moisture Resistant, Pulse Withstanding Metal Element; Manufacturer: Vishay Dale; Part number: WSK1206R0100FEA18
footprint FP-WSK1206-MFG
pins: 1 I2, 2 E1, 3 E2, 4 I1

## RES-1206-75m-KELVIN
designator R?, comment LVK12R075DER  (value not drawn)
75 mOhms ±0.5% 0.5W, 1/2W Chip Resistor 1206 (3216 Metric) Anti-Corrosive, Current Sense, Moisture Resistant Thick Film
footprint LVK12R075DER
pins: 1 I1, 2 I2, 3 E1, 4 E2
text: 75m

## RES-1206-90R
designator R?, comment RT1206BRE0790RL  (value not drawn)
90 Ohms ±0.1% 0.25W, 1/4W Chip Resistor 1206 (3216 Metric) Thin Film; Manufacturer: YAGEO; Part number: RT1206BRE0790RL
footprint 1206-RES
pins: 1, 2
text: 90R

## RMCF0603FT51R0
designator R?  (value not drawn)
51 Ohms ±1% 0.1W, 1/10W Chip Resistor 0603 (1608 Metric) Automotive AEC-Q200 Thick Film; Manufacturer: Stackpole Electronics Inc; Parameter 2: RMCF0603FT51R0
footprint 0603-RES
pins: 1, 2
text: 51R

## RT0603BRD07135KL
designator R?  (value not drawn)
135 kOhms ±0.1% 0.1W, 1/10W Chip Resistor 0603 (1608 Metric) Thin Film; Manufacturer: Yageo; Part number: RT0603BRD07135KL
footprint 0603-RES
pins: 1, 2
text: 135k

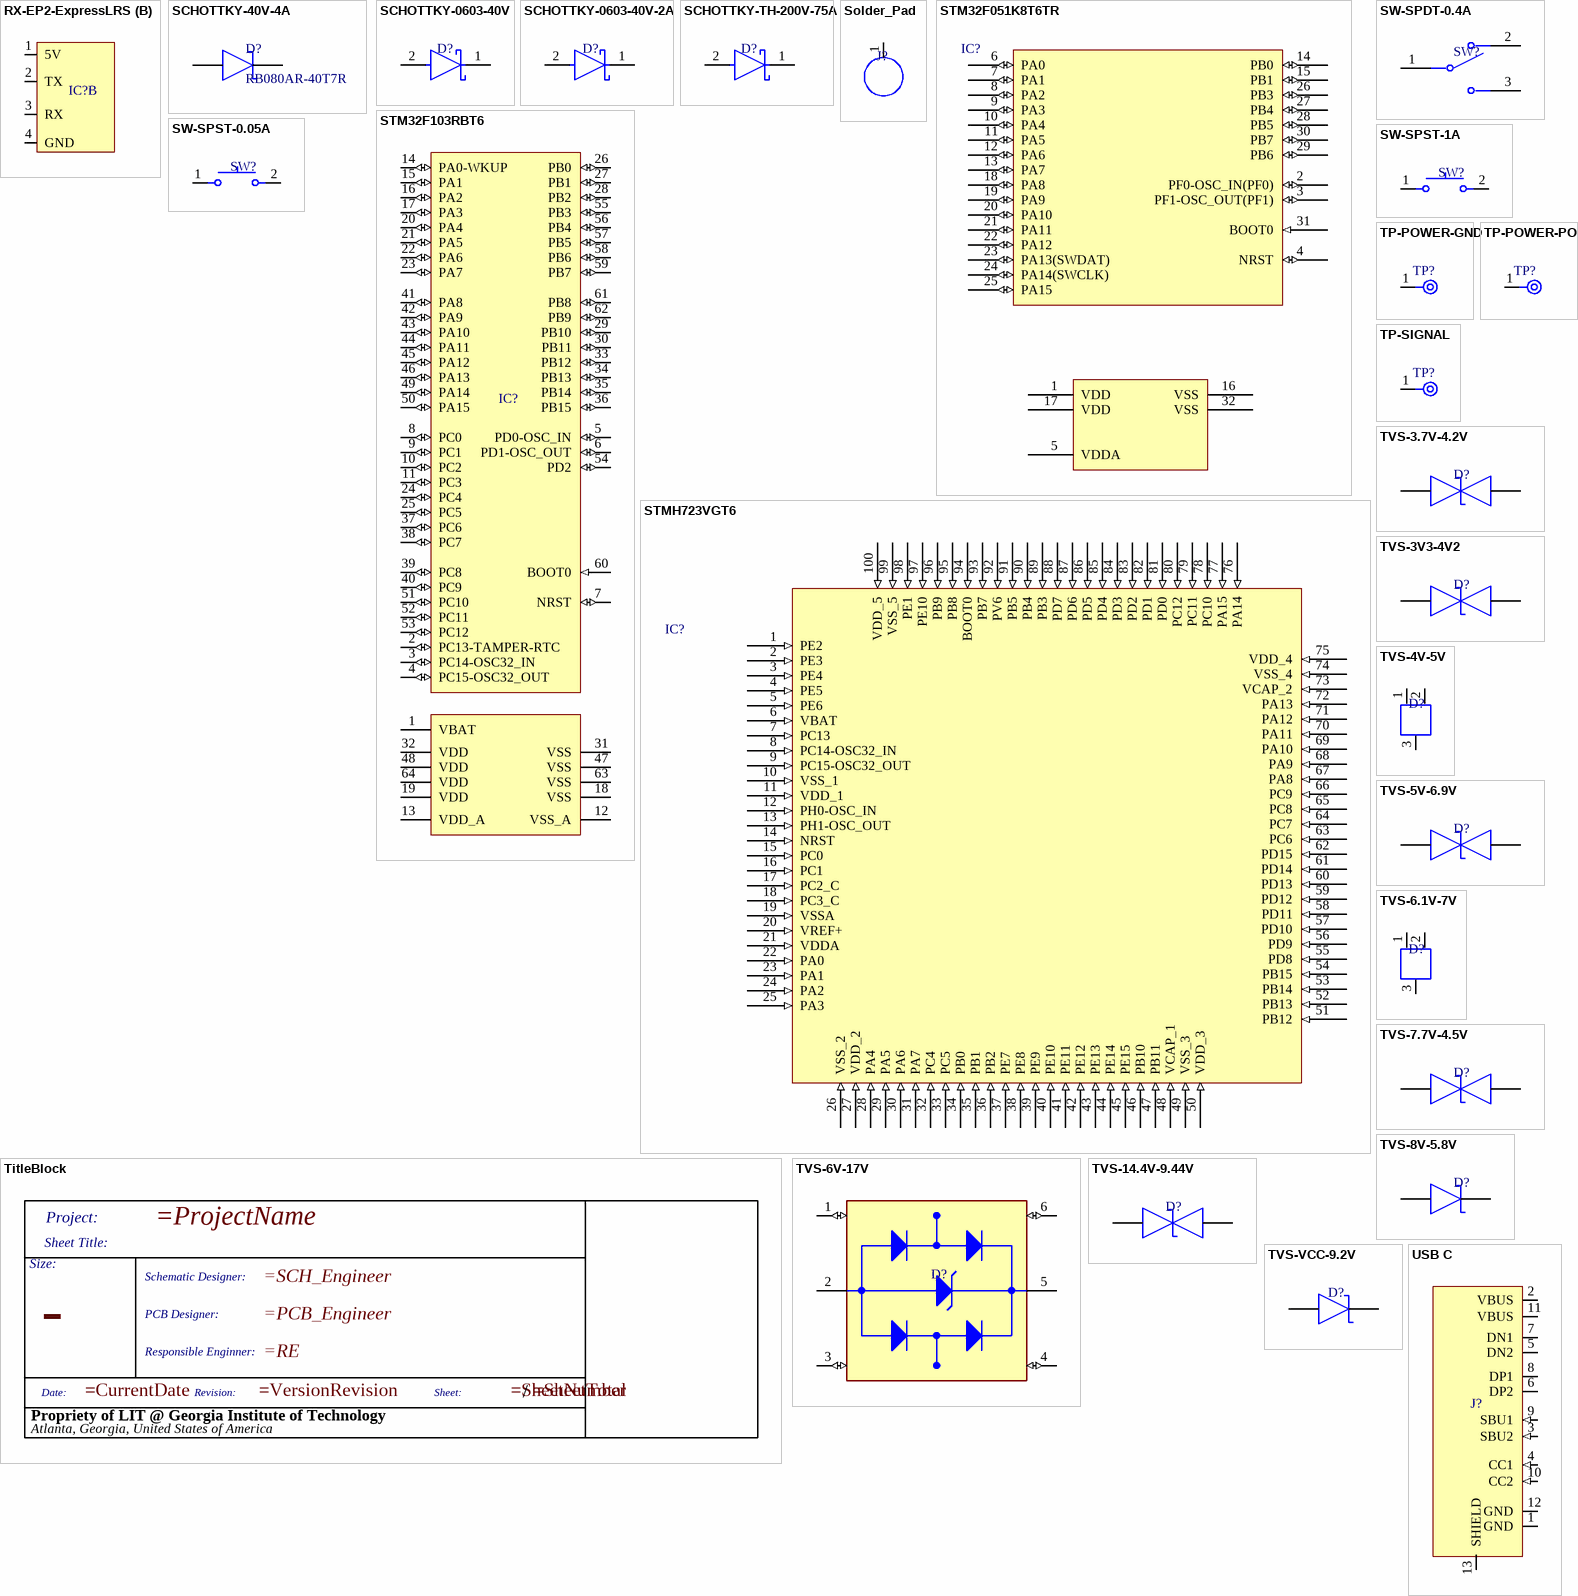
[diagram p3: symbols RX-EP2-ExpressLRS to USB C]

## RX-EP2-ExpressLRS
designator IC?, comment 2.4GHz EP2 RX  (value not drawn)
Happymodel ExpressLRS Nano 2.4GHz EP2 RX; Manufacturer: ExpressLRS; Part number: EP2
part B pins: 1 5V, 2 TX, 3 RX, 4 GND

## SCHOTTKY-40V-4A
designator D?, comment RB080AR-40T7R
Diode 40 V 4A Surface Mount DSN2012-2
footprint RB080AR-40T7R
pins: 1, 2

## SCHOTTKY-0603-40V
designator D?, comment VSKY20401608-G4-08  (value not drawn)
DIODE SCHOTTKY 40V 2A CLP1608-2L; Manufacturer: Vishay General Semiconductor - Diodes Division; Part number: VSKY20401608-G4-08
footprint 0603-SchottkyDIODE
pins: 1 C, 2 A

## SCHOTTKY-0603-40V-2A
designator D?, comment NSR20F40NXT5G  (value not drawn)
Diode 40 V 2A Surface Mount 2-DSN (1.6x0.8), (0603); Manufacturer: onsemi; Part number: NSR20F40NXT5G
footprint 0603-SchottkyDIODE
pins: 1 C, 2 A

## SCHOTTKY-TH-200V-75A
designator D?, comment APT60S20BG  (value not drawn)
Diode 200 V 75A Through Hole TO-247 [B]
footprint APT60S20BG
pins: 1 C, 2 A

## Solder_Pad
designator J?, comment Solder Pad  (value not drawn)
Use for external and high current connections (cheaper than castellated holes)
footprint Solder_Pad
pins: 1

## STM32F051K8T6TR
designator IC?  (value not drawn)
ARM® Cortex®-M0 STM32F0 Microcontroller IC 32-Bit Single-Core 48MHz 64KB (64K x 8) FLASH 32-LQFP (7x7)
footprint STM32F051K8T6TR-QFP127P600-8N
pins: 1 VDD (power), 2 PF0-OSC_IN(PF0) (io), 3 PF1-OSC_OUT(PF1) (io), 4 NRST (io), 5 VDDA (power), 6 PA0 (io), 7 PA1 (io), 8 PA2 (io), 9 PA3 (io), 10 PA4 (io), 11 PA5 (io), 12 PA6 (io), 13 PA7 (io), 14 PB0 (io), 15 PB1 (io), 16 VSS (power), 17 VDD (power), 18 PA8 (io), 19 PA9 (io), 20 PA10 (io), 21 PA11 (io), 22 PA12 (io), 23 PA13(SWDAT) (io), 24 PA14(SWCLK) (io), 25 PA15 (io), 26 PB3 (io), 27 PB4 (io), 28 PB5 (io), 29 PB6 (io), 30 PB7 (io), 31 BOOT0 (in), 32 VSS (power)

## STM32F103RBT6
designator IC?  (value not drawn)
ARM® Cortex®-M3 STM32F1 Microcontroller IC 32-Bit Single-Core 72MHz 128KB (128K x 8) FLASH
footprint LQFP127P600-8N (ARM® Cortex®-M3 STM32F1 Microcontroller IC 32-Bit Single-Core 72MHz 128KB (128K x 8) FLASH)
pins: 1 VBAT (power), 2 PC13-TAMPER-RTC (io) "PC13-TAMPER-RTC/PC13/TAMPER-RTC", 3 PC14-OSC32_IN (io) "PC14-OSC32_IN/PC14/OSC32_IN", 4 PC15-OSC32_OUT (io) "PC15-OSC32_OUT/PC15/OSC32_OUT", 5 PD0-OSC_IN (io) "PD0/OSC_IN", 6 PD1-OSC_OUT (io) "PD1/OSC_OUT", 7 NRST (io), 8 PC0 (io) "PC0/ADC12_IN10", 9 PC1 (io) "PC1/ADC12_IN11", 10 PC2 (io) "PC2/ADC12_IN12", 11 PC3 (io) "PC3/ADC12_IN13", 12 VSS_A (power), 13 VDD_A (power), 14 PA0-WKUP (io) "PA0-WKUP/PA0/WKUP/USART2_CTS/ADC12_IN0/TIM2_CH1_ETR", 15 PA1 (io) "PA1/USART2_RTS/ADC12_IN1/TIM2_CH2", 16 PA2 (io) "PA2/USART2_TX/ADC12_IN2/TIM2_CH3", 17 PA3 (io) "PA3/USART2_RX/ADC12_IN3/TIM2_CH4", 18 VSS (power), 19 VDD (power), 20 PA4 (io) "PA4/SPI1_NSS/USART2_CK/ADC12_IN4", 21 PA5 (io) "PA5/SPI1_SCK/ADC12_IN5", 22 PA6 (io) "PA6/SPI1_MISO/ADC12_IN6/TIM3_CH1/TIM1_BKIN", 23 PA7 (io) "PA7/SPI1_MOSI/ADC12_IN7/TIM3_CH2/TIM1_CH1N", 24 PC4 (io) "PC4/ADC12_IN14", 25 PC5 (io) "PC5/ADC12_IN15", 26 PB0 (io) "PB0/ADC12_IN8/TIM3_CH3/TIM1_CH2N", 27 PB1 (io) "PB1/ADC12_IN9/TIM3_CH4/TIM1_CH3N", 28 PB2 (io) "PB2/BOOT1", 29 PB10 (io) "PB10/I2C2_SCL/USART3_TX/TIM2_CH3", 30 PB11 (io) "PB11/I2C2_SDA/USART3_RX/TIM2_CH4", 31 VSS (power), 32 VDD (power), 33 PB12 (io) "PB12/SPI2_NSS/I2C2_SMBAl/USART3_CK/TIM1_BKIN", 34 PB13 (io) "PB13/SPI2_SCK/USART3_CTS/TIM1_CH1N", 35 PB14 (io) "PB14/SPI2_MISO/USART3_RTS/TIM1_CH2N", 36 PB15 (io) "PB15/SPI2_MOSI/TIM1_CH3N", 37 PC6 (io) "PC6/TIM3_CH1", 38 PC7 (io) "PC7/TIM3_CH2", 39 PC8 (io) "PC8/TIM3_CH3", 40 PC9 (io) "PC9/TIM3_CH4", 41 PA8 (io) "PA8/USART1_CK/TIM1_CH1/MCO", 42 PA9 (io) "PA9/USART1_TX/TIM1_CH2", 43 PA10 (io) "PA10/USART1_RX/TIM1_CH3", 44 PA11 (io) "PA11/USART1_CTS/CANRX/USBDM/TIM1_CH4", 45 PA12 (io) "PA12/USART1_RTS/CANTX/USBDP/TIM1_ETR", 46 PA13 (io) "PA13/JTMS/SWDIO", 47 VSS (power), 48 VDD (power), 49 PA14 (io) "PA14/JTCK/SWCLK", 50 PA15 (io) "PA15/JTDI/TIM2_CH1_ETR/SPI1_NSS", 51 PC10 (io) "PC10/USART3_TX", 52 PC11 (io) "PC11/USART3_RX", 53 PC12 (io) "PC12/USART3_CK", 54 PD2 (io) "PD2/TIM3_ETR", 55 PB3 (io) "PB3/JTDO/TIM2_CH2/TRACESWO/SPI1_SCK", 56 PB4 (io) "PB4/NJTRST/TIM3_CH1/SPI1_MISO", 57 PB5 (io) "PB5/I2C1_SMBAI/TIM3_CH2/SPI1_MOSI", 58 PB6 (io) "PB6/I2C1_SCL/TIM4_CH1/USART1_TX", 59 PB7 (io) "PB7/I2C1_SDA/TIM4_CH2/USART1_RX", 60 BOOT0 (in), 61 PB8 (io) "PB8/TIM4_CH3/I2C1_SCL/CANRX", 62 PB9 (io) "PB9/TIM4_CH4/I2C1_SDA/CANTX", 63 VSS (power), 64 VDD (power)

## STMH723VGT6
designator IC?, comment STM32H723VGT6  (value not drawn)
ARM® Cortex®-M7 STM32H7 Microcontroller IC 32-Bit Single-Core 550MHz 1MB (1M x 8) FLASH 100-LQFP (14x14); Manufacturer: STMicroelectronics; Part number: STM32H723VGT6
footprint STMH723VGT6-QFP127P600-8N
pins: 1 PE2 (in), 2 PE3 (in), 3 PE4 (in), 4 PE5 (in), 5 PE6 (in), 6 VBAT (in), 7 PC13 (in), 8 PC14-OSC32_IN (in), 9 PC15-OSC32_OUT (in), 10 VSS_1 (in), 11 VDD_1 (in), 12 PH0-OSC_IN (in), 13 PH1-OSC_OUT (in), 14 NRST (in), 15 PC0 (in), 16 PC1 (in), 17 PC2_C (in), 18 PC3_C (in), 19 VSSA (in), 20 VREF+ (in), 21 VDDA (in), 22 PA0 (in), 23 PA1 (in), 24 PA2 (in), 25 PA3 (in), 26 VSS_2 (in), 27 VDD_2 (in), 28 PA4 (in), 29 PA5 (in), 30 PA6 (in), 31 PA7 (in), 32 PC4 (in), 33 PC5 (in), 34 PB0 (in), 35 PB1 (in), 36 PB2 (in), 37 PE7 (in), 38 PE8 (in), 39 PE9 (in), 40 PE10 (in), 41 PE11 (in), 42 PE12 (in), 43 PE13 (in), 44 PE14 (in), 45 PE15 (in), 46 PB10 (in), 47 PB11 (in), 48 VCAP_1 (in), 49 VSS_3 (in), 50 VDD_3 (in), 51 PB12 (in), 52 PB13 (in), 53 PB14 (in), 54 PB15 (in), 55 PD8 (in), 56 PD9 (in), 57 PD10 (in), 58 PD11 (in), 59 PD12 (in), 60 PD13 (in), 61 PD14 (in), 62 PD15 (in), 63 PC6 (in), 64 PC7 (in), 65 PC8 (in), 66 PC9 (in), 67 PA8 (in), 68 PA9 (in), 69 PA10 (in), 70 PA11 (in), 71 PA12 (in), 72 PA13 (in), 73 VCAP_2 (in), 74 VSS_4 (in), 75 VDD_4 (in), 76 PA14 (in), 77 PA15 (in), 78 PC10 (in), 79 PC11 (in), 80 PC12 (in), 81 PD0 (in), 82 PD1 (in), 83 PD2 (in), 84 PD3 (in), 85 PD4 (in), 86 PD5 (in), 87 PD6 (in), 88 PD7 (in), 89 PB3 (in), 90 PB4 (in), 91 PB5 (in), 92 PV6 (in), 93 PB7 (in), 94 BOOT0 (in), 95 PB8 (in), 96 PB9 (in), 97 PE10 (in), 98 PE1 (in), 99 VSS_5 (in), 100 VDD_5 (in)

## SW-SPDT-0.4A
designator SW?, comment G3T12AB  (value not drawn)
Toggle Switch SPDT Surface Mount; Manufacturer: NKK Switches; Part number: G3T12AB
footprint Toggle-Switch
pins: 1 C, 2 1, 3

## SW-SPST-0.05A
designator SW?, comment PTS526 SK15 SMTR2 LFS  (value not drawn)
Tactile Switch SPST-NO Top Actuated Surface Mount
footprint FP-PTS526SK15SMTR2LFS-MFG; pin to pad 1>1+2 2>3+4
pins: 1, 2

## SW-SPST-1A
designator SW?, comment GPTS203211B  (value not drawn)
Pushbutton Switch SPST Standard Through Hole; Manufacturer: CW Industries; Part number: GPTS203211B
footprint GPTS203211B
pins: 1, 2

## TitleBlock
designator *  (value not drawn)  (graphical)
Standard Title Block; Size: -
text: Project:; Sheet Title:; Size:; Schematic Designer:; PCB Designer:; Responsible Enginner:; Date:; Revision:; Sheet:; /; Propriety of LIT @ Georgia Institute of Technology; Atlanta, Georgia, United States of America

## TP-POWER-GND
designator TP?, comment 5006  (value not drawn)
Black PC Test Point, Compact Phosphor Bronze Silver Plating Through Hole Mounting Type
footprint 5006-Footprint-1
pins: 1 TP

## TP-POWER-POS
designator TP?, comment 5005  (value not drawn)
Red PC Test Point, Compact Phosphor Bronze Silver Plating Through Hole Mounting Type
footprint 5005-Footprint-1
pins: 1 TP

## TP-SIGNAL
designator TP?, comment S1751-46R  (value not drawn)
Natural PC Test Point Brass Tin Plating Surface Mount Mounting Type
footprint S1751-46R-Footprint-1
pins: 1 TP

## TVS-3.7V-4.2V
designator D?, comment PESD4V0Y1BSFYL  (value not drawn)
3.7V (Typ) Clamp Ipp Tvs Diode Surface Mount DSN0603-2; Manufacturer: Nexperia USA Inc.; Part number: PESD4V0Y1BSFYL
footprint 0201-DIODE
pins: 1, 2

## TVS-3V3-4V2
designator D?, comment PESD3V3Y1BSFYL  (value not drawn)
3.7V (Typ) Clamp Ipp Tvs Diode Surface Mount DSN0603-2
footprint FP-SOD962-2-CA-MFG
pins: 1, 2

## TVS-4V-5V
designator D?, comment PESD4V0X2UMZ  (value not drawn)
4V (Typ) Clamp 11.5A (8/20µs) Ipp Tvs Diode Surface Mount SOT-883; Manufacturer: Nexperia USA Inc.; Part number: PESD4V0X2UMZ
footprint DFN65P100X50-3N (DFN, 3-Leads, Body 0.60x1.00mm, Pitch 0.65mm, IPC Medium Density)
pins: 1, 2, 3

## TVS-5V-6.9V
designator D?, comment PESD3V3Z1BSFYL  (value not drawn)
5.3V Clamp 9.5A (8/20µs) Ipp Tvs Diode Surface Mount DSN0603-2; Manufacturer: Nexperia USA Inc.; Part number: PESD3V3Z1BSFYL
footprint 0201-DIODE
pins: 1, 2

## TVS-6.1V-7V
designator D?, comment 824021  (value not drawn)
7V Clamp 15A (8/20µs) Ipp Tvs Diode Surface Mount SOT-23-3
footprint 824021; pin to pad 1>2 2>3 3>1
pins: 1, 2, 3

## TVS-6V-17V
designator D?, comment USBLC6-2SC6  (value not drawn)
17V Clamp 5A (8/20µs) Ipp Tvs Diode Surface Mount SOT-23-6
footprint SOT95P280X145-6N (SOT23, 6-Leads, Body 2.90x2.80mm, Pitch 0.95mm, IPC Medium Density); pin to pad 4>6 6>4
pins: 1 I/O1_IN (io), 2 GND (power), 3 I/O2_IN (io), 4 I/O2_OUT (io), 5 VBUS (power), 6 I/O1_OUT (io)

## TVS-7.7V-4.5V
designator D?, comment PEC11SD03S1Q_R1_00301  (value not drawn)
7.7V (Typ) Clamp 1A (8/20µs) Ipp Tvs Diode Surface Mount DFN0603-2; Manufacturer: Panjit International Inc.; Part number: PEC11SD03S1Q_R1_00301
footprint NewTVS-PEC11SD03S1Q_R1_00301
pins: 1, 2

## TVS-8V-5.8V
designator D?, comment PESD5V0X1UB,135  (value not drawn)
8V (Typ) Clamp 1.5A (8/20µs) Ipp Tvs Diode Surface Mount SOD-523
footprint PESD5V0X1UB,135; pin to pad 1>2 2>1
pins: 1, 2

## TVS-14.4V-9.44V
designator D?, comment SMAJ8.5CA  (value not drawn)
14.4V Clamp 27.8A Ipp Tvs Diode Surface Mount DO-214AC (SMA)
footprint SMAJ8.5CA
pins: 1, 2

## TVS-VCC-9.2V
designator D?, comment SMAJ5.0A  (value not drawn)
9.2V Clamp 43.5A Ipp Tvs Diode Surface Mount DO-214AC (SMA)
footprint SMAJ5.0A (DO-214, 2-Leads, Body 4.375x2.725mm); pin to pad 1>2 2>1
pins: 1, 2

## USB C
designator J?, comment USB4105-GF-A  (value not drawn)
USB-C (USB TYPE-C) USB 2.0 Receptacle Connector 24 (16+8 Dummy) Position Surface Mount, Right Angle; Through Hole; Manufacturer: GCT; Part number: USB4105-GF-A
footprint USB4105-GF-A; pin to pad 13>13+14+15+16
pins: 1 GND (power), 2 VBUS (power), 3 SBU2 (in), 4 CC1 (in), 5 DN2 (io), 6 DP2 (io), 7 DN1 (io), 8 DP1 (io), 9 SBU1 (in), 10 CC2 (in), 11 VBUS (power), 12 GND (power), 13 SHIELD (power)

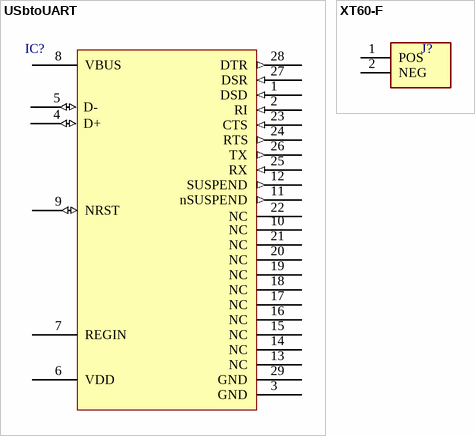
[diagram p4: symbols USbtoUART to XT60-F]

## USbtoUART
designator IC?, comment CP2102-GMR  (value not drawn)
USB Bridge, USB to UART USB 2.0 UART Interface 28-QFN (5x5); Manufacturer: Silicon Labs; Part number: CP2102-GMR
footprint 28-VFQFN (QFN, 28-Leads, Body 5.00x5.00mm, Pitch 0.50mm, Thermal Pad 3.25x3.25mm, IPC Medium Density)
pins: 1 DSD (in), 2 RI (in), 3 GND (power), 4 D+ (io), 5 D- (io), 6 VDD (power), 7 REGIN (power), 8 VBUS (power), 9 NRST (io), 10 NC, 11 nSUSPEND (out), 12 SUSPEND (out), 13 NC, 14 NC, 15 NC, 16 NC, 17 NC, 18 NC, 19 NC, 20 NC, 21 NC, 22 NC, 23 CTS (in), 24 RTS (out), 25 RX (in), 26 TX (out), 27 DSR (in), 28 DTR (out), 29 GND (power)

## XT60-F
designator J?, comment PRT-10474  (value not drawn)
XT60 CONNECTORS FEMALE PAIR
footprint AMASS_XT60PW-M
pins: 1 POS, 2 NEG